# EAGLE library part HEADER-2X3 (library custom)
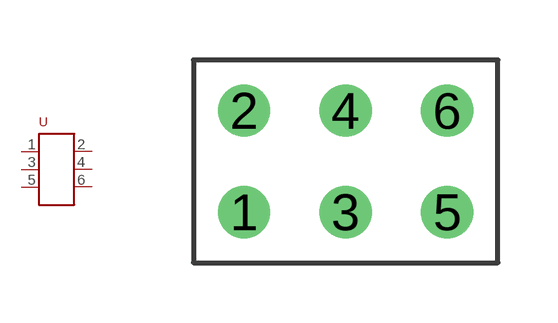
[diagram p19: symbol with the pads of HEADER-2X3; footprint HEADER-2X3]

Designator prefix -

## HEADER-2X3  [HEADER-2X3]
1  1
2  2
3  3
4  4
5  5
6  6

## Footprint HEADER-2X3 (pad centres in mm)
drill 0.8: 1 -2.54,-1.27; 2 -2.54,1.27; 3 0,-1.27; 4 0,1.27; 5 2.54,-1.27; 6 2.54,1.27